# Altium footprint library PCB - CONNECTOR - 3M - 3M TEXTOOL ZIF SIL-20 220-2600-00-0602.PCBLIB: 1 footprints
Each footprint in its own frame and in the unit in brackets; x right, y up, seen from the top. Pads: shape width x height; smd on the part's side, far side on the other; paste and mask are expansions set on the pad; w line width, h text height; cw(c..) or ccw(c..) is an arc to the next point about the centre after c.
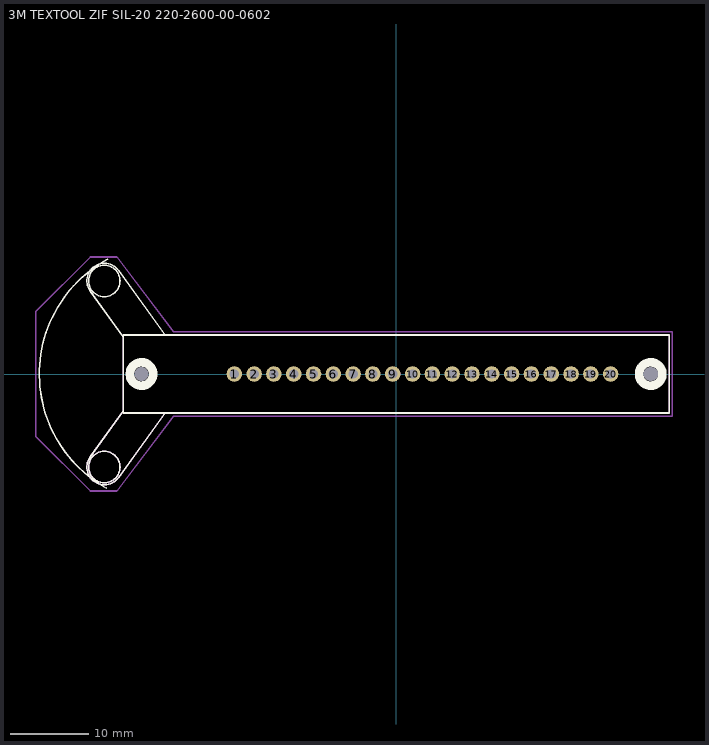
[diagram p0: the footprint, top view; thin cyan lines are the x and y axes]

## 3M TEXTOOL ZIF SIL-20 220-2600-00-0602 [mm]
height 12.8
pads (22):
  round 2 hole 1.2: 1(-20.75,0) 2(-18.21,0) 3(-15.67,0) 4(-13.13,0) 5(-10.59,0) 6(-8.05,0) 7(-5.51,0) 8(-2.97,0) 9(-0.43,0) 10(2.11,0) 11(4.65,0) 12(7.19,0) 13(9.73,0) 14(12.27,0) 15(14.81,0) 16(17.35,0) 17(19.89,0) 18(22.43,0) 19(24.97,0) 20(27.51,0)
  round 0 hole 1.85 unplated: M(-32.65,0) M(32.65,0)
Top Overlay:
  circle w0.2: c-37.42,11.933 r2.016
  circle w0.2: c-37.42,-11.933 r2.016
  circle w1.1: c32.65,0 r1.5
  circle w1.1: c-32.65,0 r1.5
  lines w0.2: -37.177,-14.619 cw(c-29,0) -36.986,14.724 ; -34.983,-4.763 -39.229,-10.619 ccw(c-37.409,-11.941) -35.588,-13.264 -29.563,-4.954 ; -34.983,4.763 -39.229,10.619 cw(c-37.409,11.941) -35.588,13.264 -29.563,4.954 ; -35,-5 -35,5 35,5 35,-5 -35,-5
Bottom Overlay:
  circle w1.1: c32.65,0 r1.5
  circle w1.1: c-32.65,0 r1.5
Top Assembly:
  circle w0.2: c-37.42,-11.933 r2.016
  lines w0.2: -34.983,-4.763 -39.229,-10.619 ccw(c-37.409,-11.941) -35.588,-13.264 -29.563,-4.954 ; -35,-5 35,-5 35,5 -35,5 -35,-5
Top Courtyard (Mech15):
  lines w0.2: -0.5,0 0.5,0 ; 0,-0.5 0,0.5 ; -46.2,-8 -39.2,-15 -35.8,-15 -28.5,-5.4 35.4,-5.4 35.4,5.4 -28.5,5.4 -35.8,15 -39.2,15 -46.2,8 -46.2,-8
3D body "3M 220-2600-00-0602.step": height 18.54, standoff -5.59, extent -39.568,-14.694 34.989,5.083